# Altium schematic symbol library WPME-CDIS.SchLib: 22 symbols
Pins are listed as number, name and electrical type; pins without a type are passive.

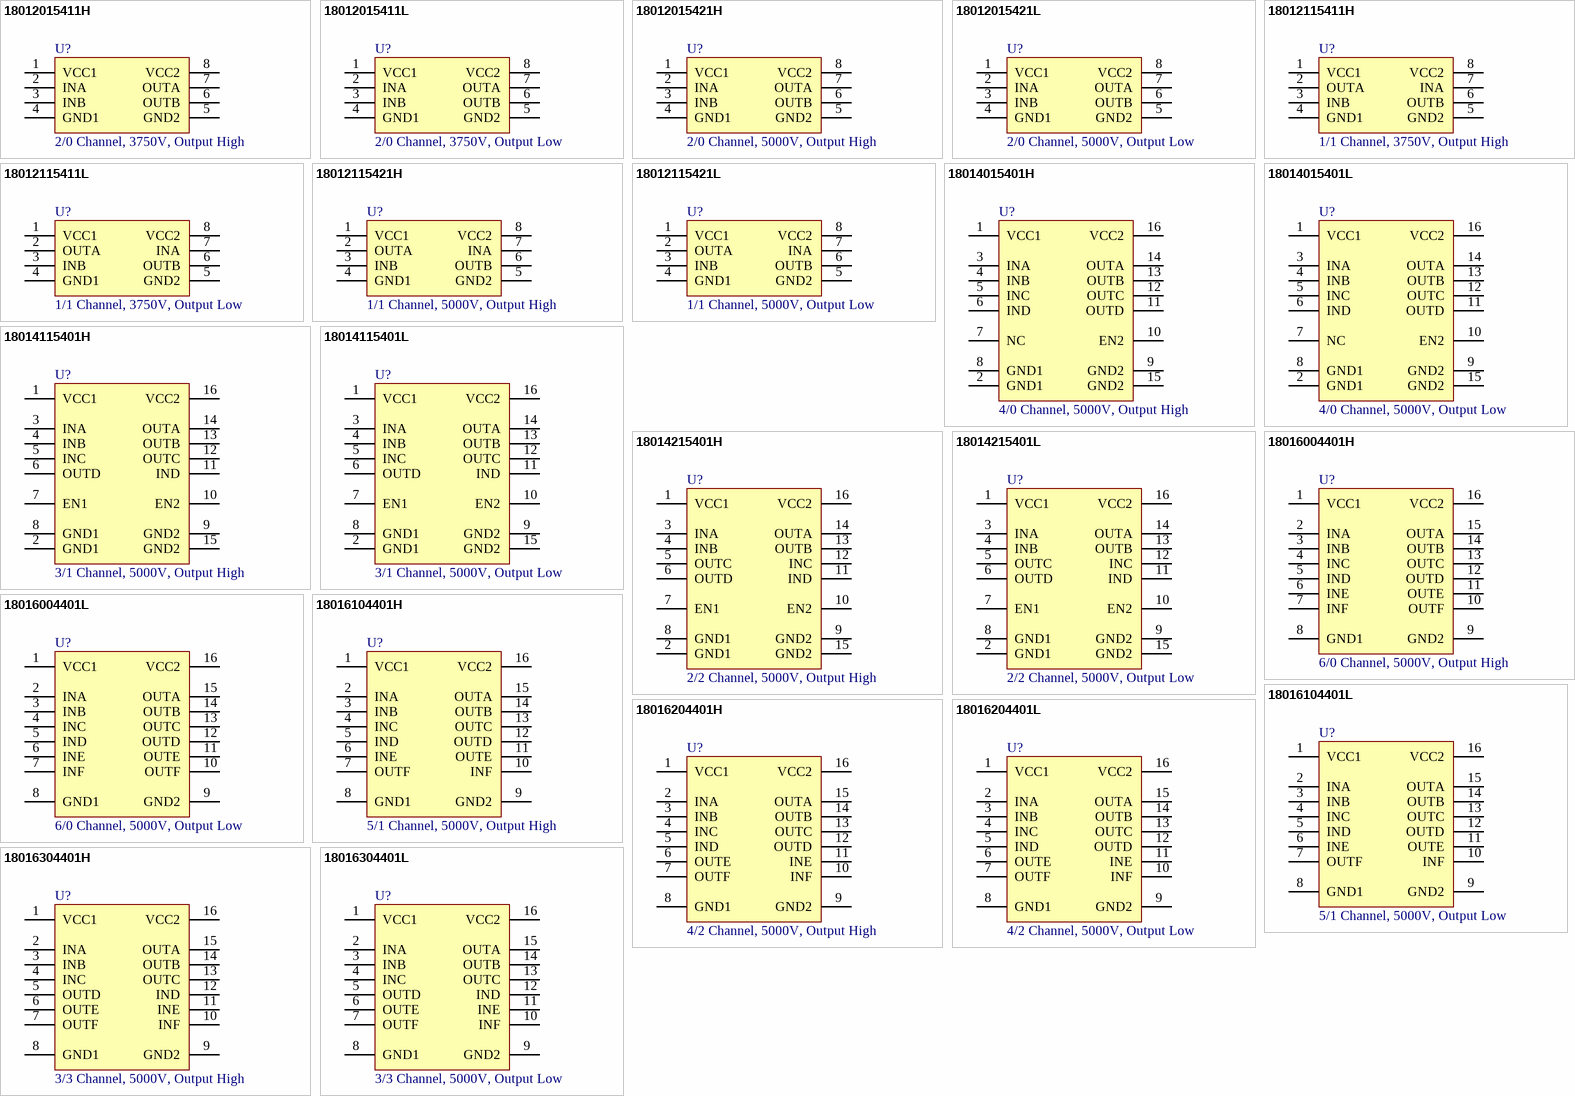
[diagram p0: symbols 18012015411H to 18016304401L]

## 18012015411H
designator U?, comment 2/0 Channel, 3750V, Output High
WPME-CDIS Capacitive Digital Isolator Standard, SMT, SOIC-8NB, 2/0 Channel, 3750V, Output High; Manufacturer Part Number: 18012015411H; Manufacturer: Wurth Elektronik; Common Mode Transient Immunity: 150kV/us; Data Rate: 150Mbps; Isolation Voltage: 3750V (RMS); Operating Supply Voltage Min: 2.375V; Operating Supply Voltage Max: 5.5V; Propagation Delay: 12ns; Category: Digital Isolator; Match Code: WPME-CDIS; ComponentLink1Description: Website Link; ComponentLink1URL: https://www.we-online.com/redexpert/article/18012015411H?ad; ComponentLink2Description: Datasheet Link; ComponentLink2URL: https://www.we-online.com/redexpert/spec/18012015411H?ad; Mount: Surface Mount; Min Operating Temperature: -40°C; Max Operating Temperature: 125°C; Packaging: Tape and Reel; Case/Size Code: SOIC-8NB; Length: 4.9mm; Width: 3.9mm; Height: 1.5mm; Channel Configuration: 2/0; Default Output: High
footprint WPME-CDIS_SOIC-8NB_18012x15411x
pins: 1 VCC1, 2 INA, 3 INB, 4 GND1, 5 GND2, 6 OUTB, 7 OUTA, 8 VCC2

## 18012015411L
designator U?, comment 2/0 Channel, 3750V, Output Low
WPME-CDIS Capacitive Digital Isolator Standard, SMT, SOIC-8NB, 2/0 Channel, 3750V, Output Low; Manufacturer Part Number: 18012015411L; Manufacturer: Wurth Elektronik; Common Mode Transient Immunity: 150kV/us; Data Rate: 150Mbps; Isolation Voltage: 3750V (RMS); Operating Supply Voltage Min: 2.375V; Operating Supply Voltage Max: 5.5V; Propagation Delay: 12ns; Category: Digital Isolator; Match Code: WPME-CDIS; ComponentLink1Description: Website Link; ComponentLink1URL: https://www.we-online.com/redexpert/article/18012015411L?ad; ComponentLink2Description: Datasheet Link; ComponentLink2URL: https://www.we-online.com/redexpert/spec/18012015411L?ad; Mount: Surface Mount; Min Operating Temperature: -40°C; Max Operating Temperature: 125°C; Packaging: Tape and Reel; Case/Size Code: SOIC-8NB; Length: 4.9mm; Width: 3.9mm; Height: 1.5mm; Channel Configuration: 2/0; Default Output: Low
footprint WPME-CDIS_SOIC-8NB_18012x15411x
pins: 1 VCC1, 2 INA, 3 INB, 4 GND1, 5 GND2, 6 OUTB, 7 OUTA, 8 VCC2

## 18012015421H
designator U?, comment 2/0 Channel, 5000V, Output High
WPME-CDIS Capacitive Digital Isolator Standard, SMT, SOIC-8WB, 2/0 Channel, 5000V, Output High; Manufacturer Part Number: 18012015421H; Manufacturer: Wurth Elektronik; Common Mode Transient Immunity: 150kV/us; Data Rate: 150Mbps; Isolation Voltage: 5000V (RMS); Operating Supply Voltage Min: 2.375V; Operating Supply Voltage Max: 5.5V; Propagation Delay: 12ns; Category: Digital Isolator; Match Code: WPME-CDIS; ComponentLink1Description: Website Link; ComponentLink1URL: https://www.we-online.com/redexpert/article/18012015421H?ad; ComponentLink2Description: Datasheet Link; ComponentLink2URL: https://www.we-online.com/redexpert/spec/18012015421H?ad; Mount: Surface Mount; Min Operating Temperature: -40°C; Max Operating Temperature: 125°C; Packaging: Tape and Reel; Case/Size Code: SOIC-8WB; Length: 5.85mm; Width: 11.5mm; Height: 2.8mm; Channel Configuration: 2/0; Default Output: High
footprint WPME-CDIS_SOIC-8WB_18012x15421x
pins: 1 VCC1, 2 INA, 3 INB, 4 GND1, 5 GND2, 6 OUTB, 7 OUTA, 8 VCC2

## 18012015421L
designator U?, comment 2/0 Channel, 5000V, Output Low
WPME-CDIS Capacitive Digital Isolator Standard, SMT, SOIC-8WB, 2/0 Channel, 5000V, Output Low; Manufacturer Part Number: 18012015421L; Manufacturer: Wurth Elektronik; Common Mode Transient Immunity: 150kV/us; Data Rate: 150Mbps; Isolation Voltage: 5000V (RMS); Operating Supply Voltage Min: 2.375V; Operating Supply Voltage Max: 5.5V; Propagation Delay: 12ns; Category: Digital Isolator; Match Code: WPME-CDIS; ComponentLink1Description: Website Link; ComponentLink1URL: https://www.we-online.com/redexpert/article/18012015421L?ad; ComponentLink2Description: Datasheet Link; ComponentLink2URL: https://www.we-online.com/redexpert/spec/18012015421L?ad; Mount: Surface Mount; Min Operating Temperature: -40°C; Max Operating Temperature: 125°C; Packaging: Tape and Reel; Case/Size Code: SOIC-8WB; Length: 5.85mm; Width: 11.5mm; Height: 2.8mm; Channel Configuration: 2/0; Default Output: Low
footprint WPME-CDIS_SOIC-8WB_18012x15421x
pins: 1 VCC1, 2 INA, 3 INB, 4 GND1, 5 GND2, 6 OUTB, 7 OUTA, 8 VCC2

## 18012115411H
designator U?, comment 1/1 Channel, 3750V, Output High
WPME-CDIS Capacitive Digital Isolator Standard, SMT, SOIC-8NB, 1/1 Channel, 3750V, Output High; Manufacturer Part Number: 18012115411H; Manufacturer: Wurth Elektronik; Common Mode Transient Immunity: 150kV/us; Data Rate: 150Mbps; Isolation Voltage: 3750V (RMS); Operating Supply Voltage Min: 2.375V; Operating Supply Voltage Max: 5.5V; Propagation Delay: 12ns; Category: Digital Isolator; Match Code: WPME-CDIS; ComponentLink1Description: Website Link; ComponentLink1URL: https://www.we-online.com/redexpert/article/18012115411H?ad; ComponentLink2Description: Datasheet Link; ComponentLink2URL: https://www.we-online.com/redexpert/spec/18012115411H?ad; Mount: Surface Mount; Min Operating Temperature: -40°C; Max Operating Temperature: 125°C; Packaging: Tape and Reel; Case/Size Code: SOIC-8NB; Length: 4.9mm; Width: 3.9mm; Height: 1.5mm; Channel Configuration: 1/1; Default Output: High
footprint WPME-CDIS_SOIC-8NB_18012x15411x
pins: 1 VCC1, 2 OUTA, 3 INB, 4 GND1, 5 GND2, 6 OUTB, 7 INA, 8 VCC2

## 18012115411L
designator U?, comment 1/1 Channel, 3750V, Output Low
WPME-CDIS Capacitive Digital Isolator Standard, SMT, SOIC-8NB, 1/1 Channel, 3750V, Output Low; Manufacturer Part Number: 18012115411L; Manufacturer: Wurth Elektronik; Common Mode Transient Immunity: 150kV/us; Data Rate: 150Mbps; Isolation Voltage: 3750V (RMS); Operating Supply Voltage Min: 2.375V; Operating Supply Voltage Max: 5.5V; Propagation Delay: 12ns; Category: Digital Isolator; Match Code: WPME-CDIS; ComponentLink1Description: Website Link; ComponentLink1URL: https://www.we-online.com/redexpert/article/18012115411L?ad; ComponentLink2Description: Datasheet Link; ComponentLink2URL: https://www.we-online.com/redexpert/spec/18012115411L?ad; Mount: Surface Mount; Min Operating Temperature: -40°C; Max Operating Temperature: 125°C; Packaging: Tape and Reel; Case/Size Code: SOIC-8NB; Length: 4.9mm; Width: 3.9mm; Height: 1.5mm; Channel Configuration: 1/1; Default Output: Low
footprint WPME-CDIS_SOIC-8NB_18012x15411x
pins: 1 VCC1, 2 OUTA, 3 INB, 4 GND1, 5 GND2, 6 OUTB, 7 INA, 8 VCC2

## 18012115421H
designator U?, comment 1/1 Channel, 5000V, Output High
WPME-CDIS Capacitive Digital Isolator Standard, SMT, SOIC-8WB, 1/1 Channel, 5000V, Output High; Manufacturer Part Number: 18012115421H; Manufacturer: Wurth Elektronik; Common Mode Transient Immunity: 150kV/us; Data Rate: 150Mbps; Isolation Voltage: 5000V (RMS); Operating Supply Voltage Min: 2.375V; Operating Supply Voltage Max: 5.5V; Propagation Delay: 12ns; Category: Digital Isolator; Match Code: WPME-CDIS; ComponentLink1Description: Website Link; ComponentLink1URL: https://www.we-online.com/redexpert/article/18012115421H?ad; ComponentLink2Description: Datasheet Link; ComponentLink2URL: https://www.we-online.com/redexpert/spec/18012115421H?ad; Mount: Surface Mount; Min Operating Temperature: -40°C; Max Operating Temperature: 125°C; Packaging: Tape and Reel; Case/Size Code: SOIC-8WB; Length: 5.85mm; Width: 11.5mm; Height: 2.8mm; Channel Configuration: 1/1; Default Output: High
footprint WPME-CDIS_SOIC-8WB_18012x15421x
pins: 1 VCC1, 2 OUTA, 3 INB, 4 GND1, 5 GND2, 6 OUTB, 7 INA, 8 VCC2

## 18012115421L
designator U?, comment 1/1 Channel, 5000V, Output Low
WPME-CDIS Capacitive Digital Isolator Standard, SMT, SOIC-8WB, 1/1 Channel, 5000V, Output Low; Manufacturer Part Number: 18012115421L; Manufacturer: Wurth Elektronik; Common Mode Transient Immunity: 150kV/us; Data Rate: 150Mbps; Isolation Voltage: 5000V (RMS); Operating Supply Voltage Min: 2.375V; Operating Supply Voltage Max: 5.5V; Propagation Delay: 12ns; Category: Digital Isolator; Match Code: WPME-CDIS; ComponentLink1Description: Website Link; ComponentLink1URL: https://www.we-online.com/redexpert/article/18012115421L?ad; ComponentLink2Description: Datasheet Link; ComponentLink2URL: https://www.we-online.com/redexpert/spec/18012115421L?ad; Mount: Surface Mount; Min Operating Temperature: -40°C; Max Operating Temperature: 125°C; Packaging: Tape and Reel; Case/Size Code: SOIC-8WB; Length: 5.85mm; Width: 11.5mm; Height: 2.8mm; Channel Configuration: 1/1; Default Output: Low
footprint WPME-CDIS_SOIC-8WB_18012x15421x
pins: 1 VCC1, 2 OUTA, 3 INB, 4 GND1, 5 GND2, 6 OUTB, 7 INA, 8 VCC2

## 18014015401H
designator U?, comment 4/0 Channel, 5000V, Output High
WPME-CDIS Capacitive Digital Isolator Standard, SMT, SOIC-16WB, 4/0 Channel, 5000V, Output High; Manufacturer Part Number: 18014015401H; Manufacturer: Wurth Elektronik; Common Mode Transient Immunity: 150kV/us; Data Rate: 150Mbps; Isolation Voltage: 5000V (RMS); Operating Supply Voltage Min: 2.375V; Operating Supply Voltage Max: 5.5V; Propagation Delay: 12ns; Category: Digital Isolator; Match Code: WPME-CDIS; ComponentLink1Description: Website Link; ComponentLink1URL: https://www.we-online.com/redexpert/article/18014015401H?ad; ComponentLink2Description: Datasheet Link; ComponentLink2URL: https://www.we-online.com/redexpert/spec/18014015401H?ad; Mount: Surface Mount; Min Operating Temperature: -40°C; Max Operating Temperature: 125°C; Packaging: Tape and Reel; Case/Size Code: SOIC-16WB; Length: 10.3mm; Width: 7.5mm; Height: 2.5mm; Channel Configuration: 4/0; Default Output: High
footprint WPME-CDIS_SOIC-16WB_18014x15401x
pins: 1 VCC1, 2 GND1, 3 INA, 4 INB, 5 INC, 6 IND, 7 NC, 8 GND1, 9 GND2, 10 EN2, 11 OUTD, 12 OUTC, 13 OUTB, 14 OUTA, 15 GND2, 16 VCC2

## 18014015401L
designator U?, comment 4/0 Channel, 5000V, Output Low
WPME-CDIS Capacitive Digital Isolator Standard, SMT, SOIC-16WB, 4/0 Channel, 5000V, Output Low; Manufacturer Part Number: 18014015401L; Manufacturer: Wurth Elektronik; Common Mode Transient Immunity: 150kV/us; Data Rate: 150Mbps; Isolation Voltage: 5000V (RMS); Operating Supply Voltage Min: 2.375V; Operating Supply Voltage Max: 5.5V; Propagation Delay: 12ns; Category: Digital Isolator; Match Code: WPME-CDIS; ComponentLink1Description: Website Link; ComponentLink1URL: https://www.we-online.com/redexpert/article/18014015401L?ad; ComponentLink2Description: Datasheet Link; ComponentLink2URL: https://www.we-online.com/redexpert/spec/18014015401L?ad; Mount: Surface Mount; Min Operating Temperature: -40°C; Max Operating Temperature: 125°C; Packaging: Tape and Reel; Case/Size Code: SOIC-16WB; Length: 10.3mm; Width: 7.5mm; Height: 2.5mm; Channel Configuration: 4/0; Default Output: Low
footprint WPME-CDIS_SOIC-16WB_18014x15401x
pins: 1 VCC1, 2 GND1, 3 INA, 4 INB, 5 INC, 6 IND, 7 NC, 8 GND1, 9 GND2, 10 EN2, 11 OUTD, 12 OUTC, 13 OUTB, 14 OUTA, 15 GND2, 16 VCC2

## 18014115401H
designator U?, comment 3/1 Channel, 5000V, Output High
WPME-CDIS Capacitive Digital Isolator Standard, SMT, SOIC-16WB, 3/1 Channel, 5000V, Output High; Manufacturer Part Number: 18014115401H; Manufacturer: Wurth Elektronik; Common Mode Transient Immunity: 150kV/us; Data Rate: 150Mbps; Isolation Voltage: 5000V (RMS); Operating Supply Voltage Min: 2.375V; Operating Supply Voltage Max: 5.5V; Propagation Delay: 12ns; Category: Digital Isolator; Match Code: WPME-CDIS; ComponentLink1Description: Website Link; ComponentLink1URL: https://www.we-online.com/redexpert/article/18014115401H?ad; ComponentLink2Description: Datasheet Link; ComponentLink2URL: https://www.we-online.com/redexpert/spec/18014115401H?ad; Mount: Surface Mount; Min Operating Temperature: -40°C; Max Operating Temperature: 125°C; Packaging: Tape and Reel; Case/Size Code: SOIC-16WB; Length: 10.3mm; Width: 7.5mm; Height: 2.5mm; Channel Configuration: 3/1; Default Output: High
footprint WPME-CDIS_SOIC-16WB_18014x15401x
pins: 1 VCC1, 2 GND1, 3 INA, 4 INB, 5 INC, 6 OUTD, 7 EN1, 8 GND1, 9 GND2, 10 EN2, 11 IND, 12 OUTC, 13 OUTB, 14 OUTA, 15 GND2, 16 VCC2

## 18014115401L
designator U?, comment 3/1 Channel, 5000V, Output Low
WPME-CDIS Capacitive Digital Isolator Standard, SMT, SOIC-16WB, 3/1 Channel, 5000V, Output Low; Manufacturer Part Number: 18014115401L; Manufacturer: Wurth Elektronik; Common Mode Transient Immunity: 150kV/us; Data Rate: 150Mbps; Isolation Voltage: 5000V (RMS); Operating Supply Voltage Min: 2.375V; Operating Supply Voltage Max: 5.5V; Propagation Delay: 12ns; Category: Digital Isolator; Match Code: WPME-CDIS; ComponentLink1Description: Website Link; ComponentLink1URL: https://www.we-online.com/redexpert/article/18014115401L?ad; ComponentLink2Description: Datasheet Link; ComponentLink2URL: https://www.we-online.com/redexpert/spec/18014115401L?ad; Mount: Surface Mount; Min Operating Temperature: -40°C; Max Operating Temperature: 125°C; Packaging: Tape and Reel; Case/Size Code: SOIC-16WB; Length: 10.3mm; Width: 7.5mm; Height: 2.5mm; Channel Configuration: 3/1; Default Output: Low
footprint WPME-CDIS_SOIC-16WB_18014x15401x
pins: 1 VCC1, 2 GND1, 3 INA, 4 INB, 5 INC, 6 OUTD, 7 EN1, 8 GND1, 9 GND2, 10 EN2, 11 IND, 12 OUTC, 13 OUTB, 14 OUTA, 15 GND2, 16 VCC2

## 18014215401H
designator U?, comment 2/2 Channel, 5000V, Output High
WPME-CDIS Capacitive Digital Isolator Standard, SMT, SOIC-16WB, 2/2 Channel, 5000V, Output High; Manufacturer Part Number: 18014215401H; Manufacturer: Wurth Elektronik; Common Mode Transient Immunity: 150kV/us; Data Rate: 150Mbps; Isolation Voltage: 5000V (RMS); Operating Supply Voltage Min: 2.375V; Operating Supply Voltage Max: 5.5V; Propagation Delay: 12ns; Category: Digital Isolator; Match Code: WPME-CDIS; ComponentLink1Description: Website Link; ComponentLink1URL: https://www.we-online.com/redexpert/article/18014215401H?ad; ComponentLink2Description: Datasheet Link; ComponentLink2URL: https://www.we-online.com/redexpert/spec/18014215401H?ad; Mount: Surface Mount; Min Operating Temperature: -40°C; Max Operating Temperature: 125°C; Packaging: Tape and Reel; Case/Size Code: SOIC-16WB; Length: 10.3mm; Width: 7.5mm; Height: 2.5mm; Channel Configuration: 2/2; Default Output: High
footprint WPME-CDIS_SOIC-16WB_18014x15401x
pins: 1 VCC1, 2 GND1, 3 INA, 4 INB, 5 OUTC, 6 OUTD, 7 EN1, 8 GND1, 9 GND2, 10 EN2, 11 IND, 12 INC, 13 OUTB, 14 OUTA, 15 GND2, 16 VCC2

## 18014215401L
designator U?, comment 2/2 Channel, 5000V, Output Low
WPME-CDIS Capacitive Digital Isolator Standard, SMT, SOIC-16WB, 2/2 Channel, 5000V, Output Low; Manufacturer Part Number: 18014215401L; Manufacturer: Wurth Elektronik; Common Mode Transient Immunity: 150kV/us; Data Rate: 150Mbps; Isolation Voltage: 5000V (RMS); Operating Supply Voltage Min: 2.375V; Operating Supply Voltage Max: 5.5V; Propagation Delay: 12ns; Category: Digital Isolator; Match Code: WPME-CDIS; ComponentLink1Description: Website Link; ComponentLink1URL: https://www.we-online.com/redexpert/article/18014215401L?ad; ComponentLink2Description: Datasheet Link; ComponentLink2URL: https://www.we-online.com/redexpert/spec/18014215401L?ad; Mount: Surface Mount; Min Operating Temperature: -40°C; Max Operating Temperature: 125°C; Packaging: Tape and Reel; Case/Size Code: SOIC-16WB; Length: 10.3mm; Width: 7.5mm; Height: 2.5mm; Channel Configuration: 2/2; Default Output: Low
footprint WPME-CDIS_SOIC-16WB_18014x15401x
pins: 1 VCC1, 2 GND1, 3 INA, 4 INB, 5 OUTC, 6 OUTD, 7 EN1, 8 GND1, 9 GND2, 10 EN2, 11 IND, 12 INC, 13 OUTB, 14 OUTA, 15 GND2, 16 VCC2

## 18016004401H
designator U?, comment 6/0 Channel, 5000V, Output High
WPME-CDIS Capacitive Digital Isolator Standard, SMT, SOIC-16WB, 6/0 Channel, 5000V, Output High; Manufacturer Part Number: 18016004401H; Manufacturer: Wurth Elektronik; Common Mode Transient Immunity: 150kV/us; Data Rate: 40Mbps; Isolation Voltage: 5000V (RMS); Operating Supply Voltage Min: 3V; Operating Supply Voltage Max: 5.5V; Propagation Delay: 22ns; Category: Digital Isolator; Match Code: WPME-CDIS; ComponentLink1Description: Website Link; ComponentLink1URL: https://www.we-online.com/redexpert/article/18016004401H?ad; ComponentLink2Description: Datasheet Link; ComponentLink2URL: https://www.we-online.com/redexpert/spec/18016004401H?ad; Mount: Surface Mount; Min Operating Temperature: -40°C; Max Operating Temperature: 125°C; Packaging: Tape and Reel; Case/Size Code: SOIC-16WB; Length: 10.3mm; Width: 10.3mm; Height: 2.65mm; Channel Configuration: 6/0; Default Output: High
footprint WPME-CDIS_SOIC-16WB_18016x04401x
pins: 1 VCC1, 2 INA, 3 INB, 4 INC, 5 IND, 6 INE, 7 INF, 8 GND1, 9 GND2, 10 OUTF, 11 OUTE, 12 OUTD, 13 OUTC, 14 OUTB, 15 OUTA, 16 VCC2

## 18016004401L
designator U?, comment 6/0 Channel, 5000V, Output Low
WPME-CDIS Capacitive Digital Isolator Standard, SMT, SOIC-16WB, 6/0 Channel, 5000V, Output Low; Manufacturer Part Number: 18016004401L; Manufacturer: Wurth Elektronik; Common Mode Transient Immunity: 150kV/us; Data Rate: 40Mbps; Isolation Voltage: 5000V (RMS); Operating Supply Voltage Min: 3V; Operating Supply Voltage Max: 5.5V; Propagation Delay: 22ns; Category: Digital Isolator; Match Code: WPME-CDIS; ComponentLink1Description: Website Link; ComponentLink1URL: https://www.we-online.com/redexpert/article/18016004401L?ad; ComponentLink2Description: Datasheet Link; ComponentLink2URL: https://www.we-online.com/redexpert/spec/18016004401L?ad; Mount: Surface Mount; Min Operating Temperature: -40°C; Max Operating Temperature: 125°C; Packaging: Tape and Reel; Case/Size Code: SOIC-16WB; Length: 10.3mm; Width: 10.3mm; Height: 2.65mm; Channel Configuration: 6/0; Default Output: Low
footprint WPME-CDIS_SOIC-16WB_18016x04401x
pins: 1 VCC1, 2 INA, 3 INB, 4 INC, 5 IND, 6 INE, 7 INF, 8 GND1, 9 GND2, 10 OUTF, 11 OUTE, 12 OUTD, 13 OUTC, 14 OUTB, 15 OUTA, 16 VCC2

## 18016104401H
designator U?, comment 5/1 Channel, 5000V, Output High
WPME-CDIS Capacitive Digital Isolator Standard, SMT, SOIC-16WB, 5/1 Channel, 5000V, Output High; Manufacturer Part Number: 18016104401H; Manufacturer: Wurth Elektronik; Common Mode Transient Immunity: 150kV/us; Data Rate: 40Mbps; Isolation Voltage: 5000V (RMS); Operating Supply Voltage Min: 3V; Operating Supply Voltage Max: 5.5V; Propagation Delay: 22ns; Category: Digital Isolator; Match Code: WPME-CDIS; ComponentLink1Description: Website Link; ComponentLink1URL: https://www.we-online.com/redexpert/article/18016104401H?ad; ComponentLink2Description: Datasheet Link; ComponentLink2URL: https://www.we-online.com/redexpert/spec/18016104401H?ad; Mount: Surface Mount; Min Operating Temperature: -40°C; Max Operating Temperature: 125°C; Packaging: Tape and Reel; Case/Size Code: SOIC-16WB; Length: 10.3mm; Width: 10.3mm; Height: 2.65mm; Channel Configuration: 5/1; Default Output: High
footprint WPME-CDIS_SOIC-16WB_18016x04401x
pins: 1 VCC1, 2 INA, 3 INB, 4 INC, 5 IND, 6 INE, 7 OUTF, 8 GND1, 9 GND2, 10 INF, 11 OUTE, 12 OUTD, 13 OUTC, 14 OUTB, 15 OUTA, 16 VCC2

## 18016104401L
designator U?, comment 5/1 Channel, 5000V, Output Low
WPME-CDIS Capacitive Digital Isolator Standard, SMT, SOIC-16WB, 5/1 Channel, 5000V, Output Low; Manufacturer Part Number: 18016104401L; Manufacturer: Wurth Elektronik; Common Mode Transient Immunity: 150kV/us; Data Rate: 40Mbps; Isolation Voltage: 5000V (RMS); Operating Supply Voltage Min: 3V; Operating Supply Voltage Max: 5.5V; Propagation Delay: 22ns; Category: Digital Isolator; Match Code: WPME-CDIS; ComponentLink1Description: Website Link; ComponentLink1URL: https://www.we-online.com/redexpert/article/18016104401L?ad; ComponentLink2Description: Datasheet Link; ComponentLink2URL: https://www.we-online.com/redexpert/spec/18016104401L?ad; Mount: Surface Mount; Min Operating Temperature: -40°C; Max Operating Temperature: 125°C; Packaging: Tape and Reel; Case/Size Code: SOIC-16WB; Length: 10.3mm; Width: 10.3mm; Height: 2.65mm; Channel Configuration: 5/1; Default Output: Low
footprint WPME-CDIS_SOIC-16WB_18016x04401x
pins: 1 VCC1, 2 INA, 3 INB, 4 INC, 5 IND, 6 INE, 7 OUTF, 8 GND1, 9 GND2, 10 INF, 11 OUTE, 12 OUTD, 13 OUTC, 14 OUTB, 15 OUTA, 16 VCC2

## 18016204401H
designator U?, comment 4/2 Channel, 5000V, Output High
WPME-CDIS Capacitive Digital Isolator Standard, SMT, SOIC-16WB, 4/2 Channel, 5000V, Output High; Manufacturer Part Number: 18016204401H; Manufacturer: Wurth Elektronik; Common Mode Transient Immunity: 150kV/us; Data Rate: 40Mbps; Isolation Voltage: 5000V (RMS); Operating Supply Voltage Min: 3V; Operating Supply Voltage Max: 5.5V; Propagation Delay: 22ns; Category: Digital Isolator; Match Code: WPME-CDIS; ComponentLink1Description: Website Link; ComponentLink1URL: https://www.we-online.com/redexpert/article/18016204401H?ad; ComponentLink2Description: Datasheet Link; ComponentLink2URL: https://www.we-online.com/redexpert/spec/18016204401H?ad; Mount: Surface Mount; Min Operating Temperature: -40°C; Max Operating Temperature: 125°C; Packaging: Tape and Reel; Case/Size Code: SOIC-16WB; Length: 10.3mm; Width: 10.3mm; Height: 2.65mm; Channel Configuration: 4/2; Default Output: High
footprint WPME-CDIS_SOIC-16WB_18016x04401x
pins: 1 VCC1, 2 INA, 3 INB, 4 INC, 5 IND, 6 OUTE, 7 OUTF, 8 GND1, 9 GND2, 10 INF, 11 INE, 12 OUTD, 13 OUTC, 14 OUTB, 15 OUTA, 16 VCC2

## 18016204401L
designator U?, comment 4/2 Channel, 5000V, Output Low
WPME-CDIS Capacitive Digital Isolator Standard, SMT, SOIC-16WB, 4/2 Channel, 5000V, Output Low; Manufacturer Part Number: 18016204401L; Manufacturer: Wurth Elektronik; Common Mode Transient Immunity: 150kV/us; Data Rate: 40Mbps; Isolation Voltage: 5000V (RMS); Operating Supply Voltage Min: 3V; Operating Supply Voltage Max: 5.5V; Propagation Delay: 22ns; Category: Digital Isolator; Match Code: WPME-CDIS; ComponentLink1Description: Website Link; ComponentLink1URL: https://www.we-online.com/redexpert/article/18016204401L?ad; ComponentLink2Description: Datasheet Link; ComponentLink2URL: https://www.we-online.com/redexpert/spec/18016204401L?ad; Mount: Surface Mount; Min Operating Temperature: -40°C; Max Operating Temperature: 125°C; Packaging: Tape and Reel; Case/Size Code: SOIC-16WB; Length: 10.3mm; Width: 10.3mm; Height: 2.65mm; Channel Configuration: 4/2; Default Output: Low
footprint WPME-CDIS_SOIC-16WB_18016x04401x
pins: 1 VCC1, 2 INA, 3 INB, 4 INC, 5 IND, 6 OUTE, 7 OUTF, 8 GND1, 9 GND2, 10 INF, 11 INE, 12 OUTD, 13 OUTC, 14 OUTB, 15 OUTA, 16 VCC2

## 18016304401H
designator U?, comment 3/3 Channel, 5000V, Output High
WPME-CDIS Capacitive Digital Isolator Standard, SMT, SOIC-16WB, 3/3 Channel, 5000V, Output High; Manufacturer Part Number: 18016304401H; Manufacturer: Wurth Elektronik; Common Mode Transient Immunity: 150kV/us; Data Rate: 40Mbps; Isolation Voltage: 5000V (RMS); Operating Supply Voltage Min: 3V; Operating Supply Voltage Max: 5.5V; Propagation Delay: 22ns; Category: Digital Isolator; Match Code: WPME-CDIS; ComponentLink1Description: Website Link; ComponentLink1URL: https://www.we-online.com/redexpert/article/18016304401H?ad; ComponentLink2Description: Datasheet Link; ComponentLink2URL: https://www.we-online.com/redexpert/spec/18016304401H?ad; Mount: Surface Mount; Min Operating Temperature: -40°C; Max Operating Temperature: 125°C; Packaging: Tape and Reel; Case/Size Code: SOIC-16WB; Length: 10.3mm; Width: 10.3mm; Height: 2.65mm; Channel Configuration: 3/3; Default Output: High
footprint WPME-CDIS_SOIC-16WB_18016x04401x
pins: 1 VCC1, 2 INA, 3 INB, 4 INC, 5 OUTD, 6 OUTE, 7 OUTF, 8 GND1, 9 GND2, 10 INF, 11 INE, 12 IND, 13 OUTC, 14 OUTB, 15 OUTA, 16 VCC2

## 18016304401L
designator U?, comment 3/3 Channel, 5000V, Output Low
WPME-CDIS Capacitive Digital Isolator Standard, SMT, SOIC-16WB, 3/3 Channel, 5000V, Output Low; Manufacturer Part Number: 18016304401L; Manufacturer: Wurth Elektronik; Common Mode Transient Immunity: 150kV/us; Data Rate: 40Mbps; Isolation Voltage: 5000V (RMS); Operating Supply Voltage Min: 3V; Operating Supply Voltage Max: 5.5V; Propagation Delay: 22ns; Category: Digital Isolator; Match Code: WPME-CDIS; ComponentLink1Description: Website Link; ComponentLink1URL: https://www.we-online.com/redexpert/article/18016304401L?ad; ComponentLink2Description: Datasheet Link; ComponentLink2URL: https://www.we-online.com/redexpert/spec/18016304401L?ad; Mount: Surface Mount; Min Operating Temperature: -40°C; Max Operating Temperature: 125°C; Packaging: Tape and Reel; Case/Size Code: SOIC-16WB; Length: 10.3mm; Width: 10.3mm; Height: 2.65mm; Channel Configuration: 3/3; Default Output: Low
footprint WPME-CDIS_SOIC-16WB_18016x04401x
pins: 1 VCC1, 2 INA, 3 INB, 4 INC, 5 OUTD, 6 OUTE, 7 OUTF, 8 GND1, 9 GND2, 10 INF, 11 INE, 12 IND, 13 OUTC, 14 OUTB, 15 OUTA, 16 VCC2